# Altium schematic symbol library DIODE-ZENNER.SchLib: 1 symbol
Pins are listed as number, name and electrical type; pins without a type are passive.

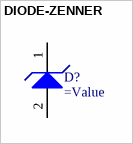
[diagram p0: symbol DIODE-ZENNER]

## DIODE-ZENNER
designator D?
=Description
pins: 1 K, 2 A